# EAGLE library part BTN7930S (library custom)
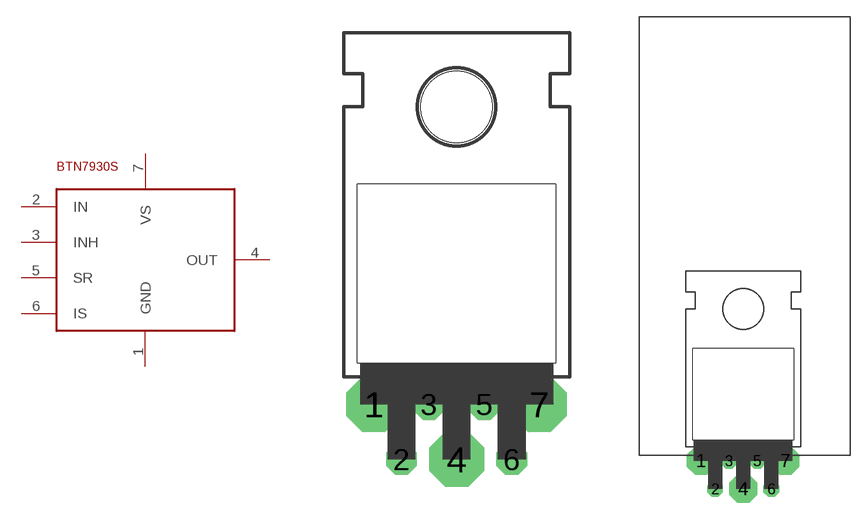
[diagram p5: symbol with the pads of TO220-7; footprints TO220-7, TO220-7-HS]

Designator prefix -

## BTN7930S  [TO220-7]
1  GND
2  IN
3  INH
4  OUT
5  SR
6  IS
7  VS

## BTN7930SHS  [TO220-7-HS]
Pads as for TO220-7

## BTN7930SV-HS  [TO220-7-V-HS]
Pads as for TO220-7

## Footprint TO220-7 (pad centres in mm)
TO-220
drill 0.8 pad 2.54 octagon: 1 -3.81,-8.89; 4 0,-11.43; 7 3.81,-8.89
drill 0.8 pad 1.422 octagon: 2 -2.54,-11.43; 3 -1.27,-8.89; 5 1.27,-8.89; 6 2.54,-11.43
hole 3.302 at 0,4.826

## Footprint TO220-7-HS (pad centres in mm)
drill 0.8 pad 2.54 octagon: 1 -3.81,-13.97; 4 0,-16.51; 7 3.81,-13.97
drill 0.8 pad 1.422 octagon: 2 -2.54,-16.51; 3 -1.27,-13.97; 5 1.27,-13.97; 6 2.54,-16.51

## Footprint TO220-7-V-HS (pad centres in mm)
drill 0.8 pad 2.54 octagon: 1 -3.81,0; 4 0,-2.54; 7 3.81,0
drill 0.8 pad 1.422 octagon: 2 -2.54,-2.54; 3 -1.27,0; 5 1.27,0; 6 2.54,-2.54